# Altium schematic symbol library Diode_Eaton_0603ESDA2-TR2_eec.SchLib: 1 symbol
Pins are listed as number, name and electrical type; pins without a type are passive.

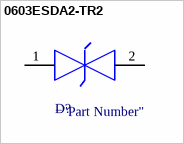
[diagram p0: symbol 0603ESDA2-TR2]

## 0603ESDA2-TR2
designator D?  (value not drawn)
pins: 1, 2